# EAGLE library part WE-WPCC_ARRAY_3COILS (library WE-WPCC)
WE-WPCC Wireless Power Array Characteristics Qi standard compliant Litzwire used - highest Q-value available on market Applicable for up to 15 W (up to 200 W outside the standards) High permeability shielding Cancels charging flux to be not coupled into sensitive components or batteries High reliable construction Mix and match your tool to find the perfect coil combination: Mix and Match Applications Portable devices used in a clean area, where connectors pose a risk of polluting e.g. medical facilities, (industrial) clean rooms, mining industry Devices with a large number of mating cycles to avoid connector damage: e.g. Smart watches, fitness tracker... Consumer products: e.g. Digital cameras, baby phone, remote control, smartphone sleeves, watertight products Explosion sensitive area where the use of a physical connection is hazardous <https://www.we-online.com/katalog/media/o107360v209%20WPCC_Grupp_Array.jpg> Details see: https://www.we-online.com/katalog/en/WE-WPCC-ARRAY Updated by Ella Wu 2022-03-31 2022(C) Wurth Elektronik
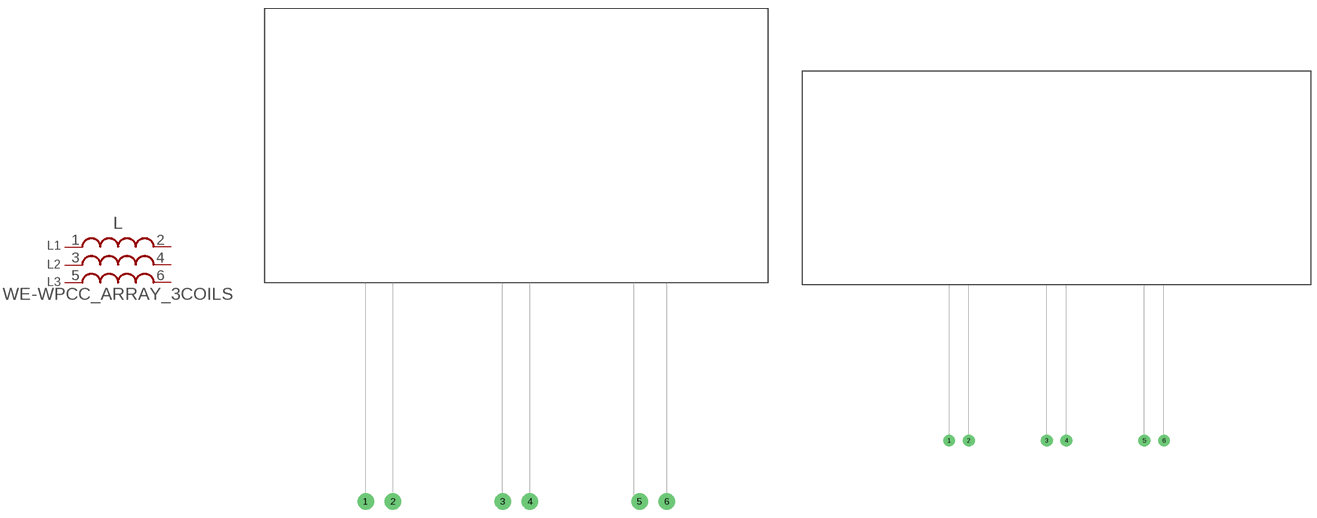
[diagram p0: symbol with the pads of WE-WPCC_ARRAY_760308104120; footprints WE-WPCC_ARRAY_760308104120, WE-WPCC_ARRAY_760308106]

Designator prefix L

## WE-WPCC_ARRAY_3COILS_760308104120 (COMPLIANCE: Qi - A28; DATASHEET-URL: https://www.we-online.com/redexpert/spec/760308104120?ae; FRES: 15/15/15MHz; IR: 9/9/9A; P: -; PART-NUMBER: 760308104120; Q: 100/100/100; RDC-MAX: 45/38/38mOhm; SIZE: 92 x 50 x 5.5 mm; VALUE: 6.9/6.4/6.9uH)  [WE-WPCC_ARRAY_760308104120]
1  1  pas
2  2  pas
3  3  pas
4  4  pas
5  5  pas
6  6  pas

## WE-WPCC_ARRAY_3COILS_760308106 (COMPLIANCE: Qi - A6; DATASHEET-URL: https://www.we-online.com/redexpert/spec/760308106?ae; FRES: 14/14/14MHz; IR: 9/9/9A; P: -; PART-NUMBER: 760308106; Q: 125/125/125; RDC-MAX: 65/65/65mOhm; SIZE: 130 x 55 x 8 mm; VALUE: 12.5/11.5/12.5uH)  [WE-WPCC_ARRAY_760308106]
Pads as for WE-WPCC_ARRAY_760308104120

## WE-WPCC_ARRAY_3COILS_760308103145 (COMPLIANCE: Qi - MP-A6; DATASHEET-URL: https://www.we-online.com/redexpert/spec/760308103145?ae; FRES: 10/10/10MHz; IR: 8.5/8.5/8.5A; P: -; PART-NUMBER: 760308103145; Q: 150/150/145; RDC-MAX: 83/83/83mOhm; SIZE: 109 x 56 x 5.2 mm; VALUE: 11.3/11.3/11.3uH)  [WE-WPCC_ARRAY_760308103145]
Pads as for WE-WPCC_ARRAY_760308104120

## WE-WPCC_ARRAY_3COILS_760308103147 (COMPLIANCE: MP-A8 3-coil array; DATASHEET-URL: https://www.we-online.com/redexpert/spec/760308103147?ae; FRES: 11/11/11MHz; IR: 9/10/9A; P: 150W; PART-NUMBER: 760308103147; Q: 145/130/145; RDC-MAX: 56/56/56mOhm; SIZE: 100 x 55 x 5.2 mm; VALUE: 8.5/7.5/8.5uH)  [WE-WPCC_ARRAY_760308103147]
Pads as for WE-WPCC_ARRAY_760308104120

## WE-WPCC_ARRAY_3COILS_760308103113 (COMPLIANCE: Qi - MP-A13 3-coil array; DATASHEET-URL: https://www.we-online.com/redexpert/spec/760308103113?ae; FRES: 14/14/14MHz; IR: 9/9/9A; P: -; PART-NUMBER: 760308103113; Q: 125/115/125; RDC-MAX: 65/65/65mOhm; SIZE: 100 x 55 x 4.5 mm; VALUE: 12.5/11.5/12.5uH)  [WE-WPCC_ARRAY_760308103113]
Pads as for WE-WPCC_ARRAY_760308104120

## WE-WPCC_ARRAY_3COILS_760308103149 (COMPLIANCE: Qi - MP-A9 3-coil array; DATASHEET-URL: https://www.we-online.com/redexpert/spec/760308103149?ae; FRES: 8/8/8MHz; IR: 9/9/9A; P: -; PART-NUMBER: 760308103149; Q: 135/130/135; RDC-MAX: 55/55/55mOhm; SIZE: 106 x 57 x 4.2 mm; VALUE: 10.2/9.8/10.2uH)  [WE-WPCC_ARRAY_760308103149]
Pads as for WE-WPCC_ARRAY_760308104120

## Footprint WE-WPCC_ARRAY_760308104120 (pad centres in mm)
WE-WPCC Wireless Power Array Qi - A28 3-coil array
drill 2: 1 -27.5,0; 2 -22.5,0; 3 -2.5,0; 4 2.5,0; 5 22.5,0; 6 27.5,0

## Footprint WE-WPCC_ARRAY_760308106 (pad centres in mm)
WE-WPCC Wireless Power Array Qi - A6 3-coil array
drill 2: 1 -27.5,0; 2 -22.5,0; 3 -2.5,0; 4 2.5,0; 5 22.5,0; 6 27.5,0

## Footprint WE-WPCC_ARRAY_760308103145 (pad centres in mm)
WE-WPCC Wireless Power Array Qi - MP-A6 3-coil array
drill 2: 1 -28.5,0; 2 -23.5,0; 3 -2.5,0; 4 2.5,0; 5 23.5,0; 6 28.5,0

## Footprint WE-WPCC_ARRAY_760308103147 (pad centres in mm)
WE-WPCC Wireless Power Array MP-A8 3-coil array
drill 2: 1 28.5,0; 2 23.5,0; 3 2.5,0; 4 -2.5,0; 5 -23.5,0; 6 -28.5,0

## Footprint WE-WPCC_ARRAY_760308103113 (pad centres in mm)
WE-WPCC Wireless Power Array Qi - MP-A13 3-coil array
drill 2: 1 -50.5,0; 2 -45.5,0; 3 -2.5,0; 4 2.5,0; 5 45.5,0; 6 50.5,0

## Footprint WE-WPCC_ARRAY_760308103149 (pad centres in mm)
WE-WPCC Wireless Power Array Qi - MP-A9 3-coil array
drill 2: 1 -27.5,0; 2 -22.5,0; 3 -2.5,0; 4 2.5,0; 5 22.5,0; 6 27.5,0